# EAGLE library part HDMI2 (library work)
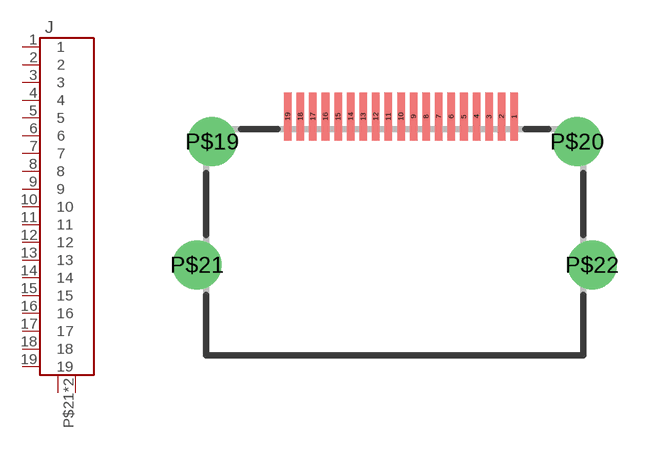
[diagram p95: symbol with the pads of HDMI; footprint HDMI]

Designator prefix J

## HDMI2  [HDMI]
1  1
2  2
3  3
4  4
5  5
6  6
7  7
8  8
9  9
10  10
11  11
12  12
13  13
14  14
15  15
16  16
17  17
18  18
19  19
P$19  P$1
P$20  P$1
P$21  P$2
P$22  P$2

## Footprint HDMI (pad centres in mm)
smd 0.3 x 1.9: 1 4.75,0; 2 4.25,0; 3 3.75,0; 4 3.25,0; 5 2.75,0; 6 2.25,0; 7 1.75,0; 8 1.25,0; 9 0.75,0; 10 0.25,0; 11 -0.25,0; 12 -0.75,0; 13 -1.25,0; 14 -1.75,0; 15 -2.25,0; 16 -2.75,0; 17 -3.25,0; 18 -3.75,0; 19 -4.25,0
drill 1.3: P$19 -7.25,-1; P$20 7.25,-1; P$21 -7.85,-5.9; P$22 7.85,-5.9